# Altium footprint library PCB1.PcbLib: 57 footprints (part 4 of 4)
Each footprint in its own frame and in the unit in brackets; x right, y up, seen from the top. Pads: shape width x height; smd on the part's side, far side on the other; paste and mask are expansions set on the pad; w line width, h text height; cw(c..) or ccw(c..) is an arc to the next point about the centre after c.
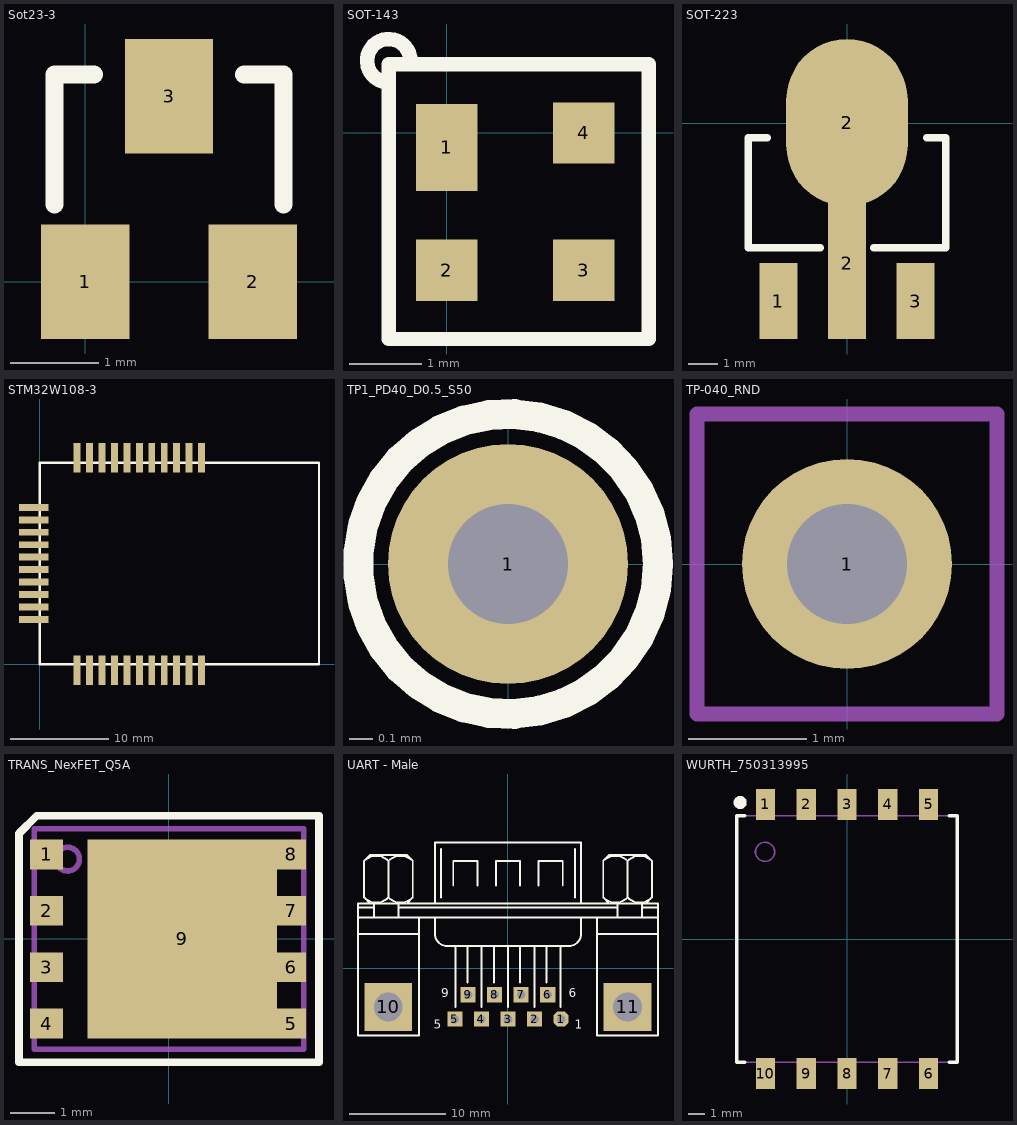
[diagram p3: the footprints below, top view; thin cyan lines are the x and y axes]

## Sot23-3 [mm]
pads (3):
  rect 1x1.3 smd: 1(0,0) 2(1.9,0) 3(0.95,2.1)
Top Overlay:
  lines w0.203: -0.35,0.875 -0.35,2.35 0.1,2.35 ; 1.8,2.35 2.25,2.35 2.25,0.875

## SOT-143 [mm]
height 1.19
pads (4):
  rect 0.85x1.2 smd: 1(0,-0.2)
  rect 0.85x0.85 smd: 2(0,-1.9) 3(1.9,-1.9) 4(1.9,0)
Top Overlay:
  lines w0.2: -0.8,0.7 cw(c-0.8,1) -0.5,1 ; 0.64,0.95 1.425,0.95 ; -0.8,-2.85 2.8,-2.85 2.8,0.95 -0.8,0.95 -0.8,-2.85
3D body: height 1, standoff 0, extent -0.26,-2.41 2.16,0.51

## SOT-223 [mil]
height 270.08
pads (4):
  rect 50x100 smd: 1(-90.5,-234) 3(90.5,-234)
  rect 50x200 smd: 2(0,-184)
  oval 160x220 smd: 2(0,1)
Top Overlay:
  lines w10: -105,-19 -130,-19 -130,-164 -35,-164 ; 35,-164 130,-164 130,-19 105,-19

## STM32W108-3 [mm]
height 6.86
pads (32):
  rect 0.7x3 smd: 1(16.51,21.074) 2(15.24,21.074) 3(13.97,21.074) 4(12.7,21.074) 5(11.43,21.074) 6(10.16,21.074) 7(8.89,21.074) 8(7.62,21.074) 9(6.35,21.074) 10(5.08,21.074) 11(3.81,21.074) 22(3.81,-0.627) 23(5.08,-0.627) 24(6.35,-0.627) 25(7.62,-0.627) 26(8.89,-0.627) 27(10.16,-0.627) 28(11.43,-0.627) 29(12.7,-0.627) 30(13.97,-0.627) 31(15.24,-0.627) 32(16.51,-0.627)
  rect 3x0.7 smd: 12(-0.627,16.002) 13(-0.627,14.732) 14(-0.627,13.462) 15(-0.627,12.192) 16(-0.627,10.922) 17(-0.627,9.652) 18(-0.627,8.382) 19(-0.627,7.112) 20(-0.627,5.842) 21(-0.627,4.572)
Top Overlay:
  lines w0.254: 0,0 28.5,0 ; 0,0.074 0,20.574 28.5,20.574 28.5,0.074

## TP1_PD40_D0.5_S50 [mil]
height 1.4
pads (1):
  round 40 hole 20: 1(0,0)
Top Overlay:
  circle w5: c0,0 r25

## TP-040_RND [mil]
pads (1):
  round 70 / inner round 62 / far side round 62 hole 40: 1(0,0)
Mechanical 5:
  lines w5: -50,-50 -50,50 50,50 50,-50 -50,-50

## TRANS_NexFET_Q5A [mm] "TI recommended land pattern (nominal) M0139-01"
height 1.1
pads (9):
  rect 0.75x0.675 smd: 1(-2.776,1.917) 2(-2.776,0.639) 3(-2.776,-0.639) 4(-2.776,-1.917)
  rect 0.655x0.675 smd: 5(2.776,-1.917) 6(2.776,-0.639) 7(2.776,0.639) 8(2.776,1.917)
  rect 4.295x4.51 smd: 9(0.301,0)
Top Overlay:
  lines w0.178: -3.4,-2.795 -3.4,0 -3.4,2.39 -2.995,2.795 0,2.795 3.4,2.795 3.4,0 3.4,-2.795 0,-2.795 -3.4,-2.795
Top Paste:
  region: -1.412,-0.31 -1.412,-1.88 -0.177,-1.88 -0.177,-0.31
  region: -1.412,0.31 -1.412,1.88 -0.177,1.88 -0.177,0.31
  region: 0.323,-0.31 0.323,-1.88 1.908,-1.88 1.908,-0.31
  region: 0.323,0.31 0.323,1.88 1.908,1.88 1.908,0.31
Mechanical 5:
  circle w0.127: c-2.3,1.81 r0.269
  lines w0.127: -3.05,-2.5 -3.05,2.5 3.05,2.5 3.05,-2.5 -3.05,-2.5
3D body: height 1.11, standoff 0, extent -3.05,-2.5 3.05,2.5

## UART - Male [mil] "带9根插针型"
pads (11):
  oct 62x62 hole 35: 1(218.39,-209.25)
  rect 62x62 hole 35: 2(109.22,-209.25) 3(0.05,-209.25) 4(-109.11,-209.25) 5(-218.28,-209.25) 6(163.39,-109.25) 7(54.22,-109.25) 8(-54.95,-109.25) 9(-164.11,-109.25)
  rect 196.67x196.67 hole 118.33: 10(-492.45,-159.25) 11(491.72,-159.25)
Top Overlay:
  lines w8: -616.61,140.75 -366.61,140.75 ; -616.61,207.41 616.72,207.41 ; -616.61,249.08 -549.95,249.08 ; -591.7,290.66 ccw(c-541.61,340.75) -491.53,290.66 ; -591.7,440.83 cw(c-541.61,390.75) -491.53,440.83 ; -566.61,265.75 -591.61,290.75 -591.61,440.75 -566.61,465.75 -416.61,465.75 -391.61,440.75 -391.61,290.75 -416.61,265.75 ; -549.95,207.41 -549.95,265.75 ; -491.7,290.66 ccw(c-441.61,340.75) -391.53,290.66 ; -491.7,440.83 cw(c-441.61,390.75) -391.53,440.83 ; -491.61,290.75 -491.61,440.75 ; -449.95,207.41 -449.95,265.75 ; -449.95,249.08 450.05,249.08 ; -366.61,207.41 -366.61,-275.92 -616.61,-275.92 -616.61,265.75 616.72,265.75 616.72,-275.92 366.72,-275.92 366.72,207.41 ; -299.95,207.41 -299.95,140.75 ccw(c-249.95,140.75) -249.95,90.75 250.05,90.75 ccw(c250.05,140.75) 300.05,140.75 300.05,207.41 ; -299.95,265.75 -299.95,515.75 300.05,515.75 300.05,265.75 ; -274.95,290.75 -274.95,490.75 ; -224.95,340.75 -224.95,440.75 -124.95,440.75 -124.95,340.75 ; -216.61,-159.25 -216.61,90.75 ; -166.61,-59.25 -166.61,90.75 ; -108.28,-159.25 -108.28,90.75 ; -58.28,-59.25 -58.28,90.75 ; -49.95,340.75 -49.95,440.75 50.05,440.75 50.05,340.75 ; 0.05,-159.25 0.05,90.75 ; 50.05,-59.25 50.05,90.75 ; 108.39,-159.25 108.39,90.75 ; 125.05,340.75 125.05,440.75 225.05,440.75 225.05,340.75 ; 158.39,-59.25 158.39,90.75 ; 216.72,-159.25 216.72,90.75 ; 275.05,290.75 275.05,490.75 ; 366.72,140.75 616.72,140.75 ; 391.63,290.66 ccw(c441.72,340.75) 491.81,290.66 ; 391.63,440.83 cw(c441.72,390.75) 491.81,440.83 ; 416.72,265.75 391.72,290.75 391.72,440.75 416.72,465.75 566.72,465.75 591.72,440.75 591.72,290.75 566.72,265.75 ; 450.05,207.41 450.05,265.75 ; 491.63,290.66 ccw(c541.72,340.75) 591.81,290.66 ; 491.63,440.83 cw(c541.72,390.75) 591.81,440.83 ; 491.72,290.75 491.72,440.75 ; 550.05,207.41 550.05,265.75 ; 550.05,249.08 616.72,249.08
  text "1" at 275,-250 h35.43
  text "6" at 250,-120 h35.43
  text "5" at -305,-250 h35.43
  text "9" at -275,-120 h35.43

## WURTH_750313995 [mm] "WURTH"
height 12.7
pads (10):
  rect 1.17x1.88 smd: 1(-4.96,8.18) 2(-2.48,8.18) 3(0,8.18) 4(2.48,8.18) 5(4.96,8.18) 6(4.96,-8.18) 7(2.48,-8.18) 8(0,-8.18) 9(-2.48,-8.18) 10(-4.96,-8.18)
Top Overlay:
  circle w0.4: c-6.5,8.3 r0.2
  lines w0.2: -6.2,-7.5 -6.7,-7.5 -6.7,7.5 -6.4,7.5 -6.2,7.5 ; 6.2,-7.5 6.7,-7.5 6.7,-5.8 6.7,7.5 6.4,7.5 6.2,7.5
Mechanical 5:
  circle w0.1: c-4.983,5.3 r0.583
  lines w0.1: -5.3,-7.5 -5.3,-8.9 -4.6,-8.9 -4.6,-7.5 ; -5.3,7.5 -5.3,8.9 -4.6,8.9 -4.6,7.5 ; -2.8,-7.5 -2.8,-8.9 -2.1,-8.9 -2.1,-7.5 ; -2.8,7.5 -2.8,8.9 -2.1,8.9 -2.1,7.5 ; -0.3,-7.5 -0.3,-8.9 0.4,-8.9 0.4,-7.5 ; -0.3,7.5 -0.3,8.9 0.4,8.9 0.4,7.5 ; 2.1,-7.5 2.1,-8.9 2.8,-8.9 2.8,-7.5 ; 2.1,7.5 2.1,8.9 2.8,8.9 2.8,7.5 ; 4.6,-7.5 4.6,-8.9 5.3,-8.9 5.3,-7.5 ; 4.6,7.5 4.6,8.9 5.3,8.9 5.3,7.5 ; -6.73,-7.5 6.73,-7.5 6.73,7.5 -6.73,7.5 -6.73,-7.5
3D body: height 12.7, standoff 0, extent -6.729,-7.499 6.729,7.499
3D body: height 1.2, standoff 0, extent -5.299,-8.899 -4.601,-7.501
3D body: height 1.2, standoff 0, extent -2.799,-8.899 -2.101,-7.501
3D body: height 1.2, standoff 0, extent -5.299,7.501 -4.601,8.899
3D body: height 1.2, standoff 0, extent -2.799,7.501 -2.101,8.899
3D body: height 1.2, standoff 0, extent -0.299,-8.899 0.399,-7.501
3D body: height 1.2, standoff 0, extent 2.101,-8.899 2.799,-7.501
3D body: height 1.2, standoff 0, extent 4.601,-8.899 5.299,-7.501
3D body: height 1.2, standoff 0, extent -0.299,7.501 0.399,8.899
3D body: height 1.2, standoff 0, extent 2.101,7.501 2.799,8.899
3D body: height 1.2, standoff 0, extent 4.601,7.501 5.299,8.899
3D body: height 12.7, standoff 10, extent -5.577,4.706 -4.389,5.894